# EAGLE library part MCP73871T-2CCI/ML (library NM_Visual_Cortex_12-10-18)
Battery Management USB/AC Battery Charger
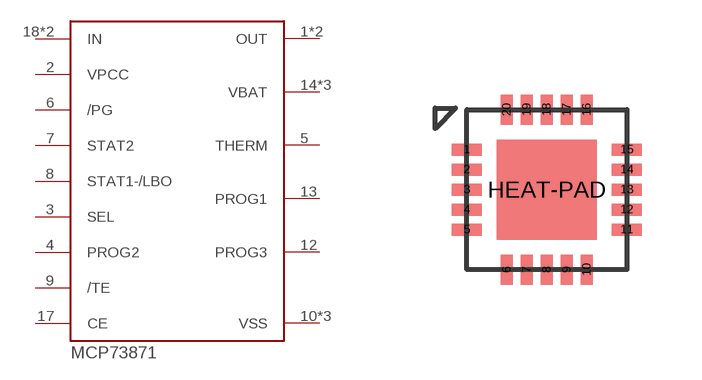
[diagram p4: symbol with the pads of QFN20; footprint QFN20]

Designator prefix -

## MCP73871T-2CCI/ML (DESCRIPTION: Battery Management USB/AC Battery Charger; MF: Microchip; MP: MCP73871T-2CCI/ML; PACKAGE: QFN-20)  [QFN20]
1  OUT
2  VPCC
3  SEL
4  PROG2
5  THERM
6  /PG
7  STAT2
8  STAT1-/LBO
9  /TE
10  VSS
11  VSS
12  PROG3
13  PROG1
14  VBAT
15  VBAT
16  VBAT
17  CE
18  IN
19  IN
20  OUT
HEAT-PAD  VSS

## Footprint QFN20 (pad centres in mm)
smd 0.75 x 0.3: 1 -2,1; 2 -2,0.5; 3 -2,0; 4 -2,-0.5; 5 -2,-1; 11 2,-1; 12 2,-0.5; 13 2,0; 14 2,0.5; 15 2,1
smd 0.3 x 0.75: 6 -1,-2; 7 -0.5,-2; 8 0,-2; 9 0.5,-2; 10 1,-2; 16 1,2; 17 0.5,2; 18 0,2; 19 -0.5,2; 20 -1,2
smd 2.5 x 2.5: HEAT-PAD 0,0